# Altium schematic symbol library tps63070rnmt.SchLib: 1 symbol
Pins are listed as number, name and electrical type; pins without a type are passive.

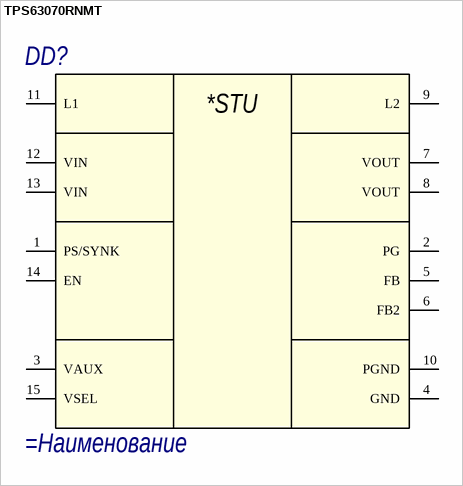
[diagram p0: symbol TPS63070RNMT]

## TPS63070RNMT
designator DD?
=Описание
pins: 1 PS/SYNK, 2 PG, 3 VAUX, 4 GND, 5 FB, 6 FB2, 7 VOUT, 8 VOUT, 9 L2, 10 PGND, 11 L1, 12 VIN, 13 VIN, 14 EN, 15 VSEL
text: *STU